# Altium schematic symbol library W-Wire convert.SCHLIB: 1 symbol
Pins are listed as number, name and electrical type; pins without a type are passive.

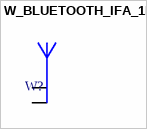
[diagram p0: symbol W_BLUETOOTH_IFA_1MM]

## W_BLUETOOTH_IFA_1MM
designator W?  (value not drawn)
Single Layer Printed IFA, 1 mm Substrate
footprint BLUETOOTH_IFA_1MM
pins: 1 GND, 2 Feed